# Altium schematic symbol library Optoelectronics.SchLib: 1 symbol
Pins are listed as number, name and electrical type; pins without a type are passive.

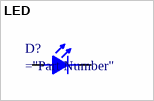
[diagram p0: symbol LED]

## LED
designator D?
pins: 1, 2